# EAGLE library part CM1624 (library Bits_library_eagle)
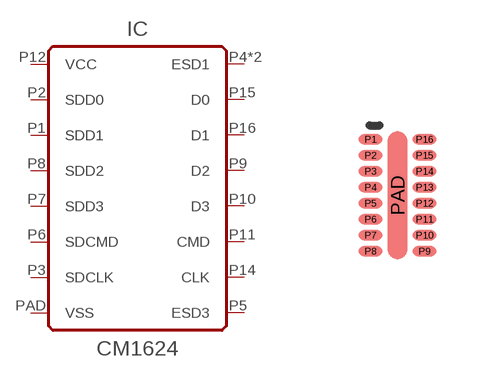
[diagram p30: symbol with the pads of UDFN16; footprint UDFN16]

Designator prefix IC

## CM1624  [UDFN16]
P1  SDD1
P2  SDD0
P3  SDCLK
P4  ESD1
P5  ESD3
P6  SDCMD
P7  SDD3
P8  SDD2
P9  D2
P10  D3
P11  CMD
P12  VCC  pwr
P13  ESD1
P14  CLK
P15  D0
P16  D1
PAD  VSS  pwr

## Footprint UDFN16 (pad centres in mm)
smd 0.6 x 0.25: P1 -0.675,1.4; P2 -0.675,1; P3 -0.675,0.6; P4 -0.675,0.2; P5 -0.675,-0.2; P6 -0.675,-0.6; P7 -0.675,-1; P8 -0.675,-1.4; P9 0.675,-1.4; P10 0.675,-1; P11 0.675,-0.6; P12 0.675,-0.2; P13 0.675,0.2; P14 0.675,0.6; P15 0.675,1; P16 0.675,1.4
smd 0.5 x 3.2: PAD 0,0